# Altium integrated library B82145A1105J000.IntLib: 1 symbol
Pins are listed as number, name and electrical type; pins without a type are passive.

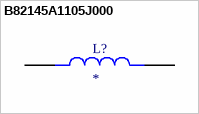
[diagram p0: symbol B82145A1105J000]

## B82145A1105J000
designator L?
FIXED IND 1MH 370MA 3.6 OHM TH; MF: TDK; MP: B82145A1105J000; Value: *; Check_prices: https://www.snapeda.com/parts/B82145A1105J000/TDK/view-part/?ref=eda; SnapEDA_Link: https://www.snapeda.com/parts/B82145A1105J000/TDK/view-part/?ref=snap; Availability: In Stock; Purchase-URL: https://pricing.snapeda.com/search/part/B82145A1105J000/?ref=eda; Package: None; Price: None
footprint INDAD1680W80L1200D650
pins: 1, 2